# Altium integrated library Lab03.IntLib: 5 symbols
Pins are listed as number, name and electrical type; pins without a type are passive.

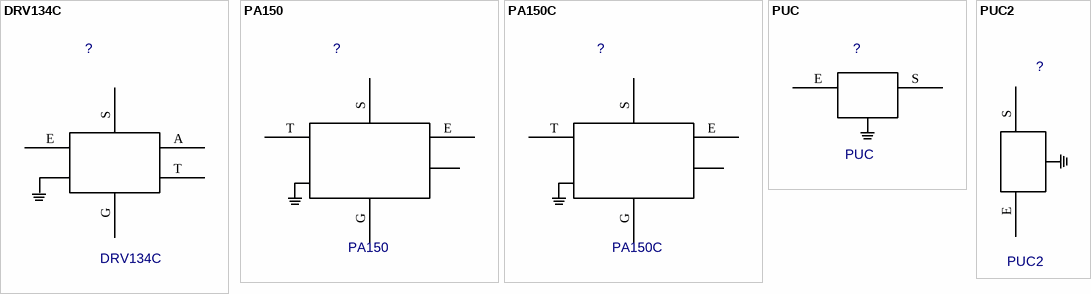
[diagram p0: symbols DRV134C to PUC2]

## DRV134C
designator ?
Value: *
footprint DRV134P_DRV134C(Primary)
pins: A, E, G, S, T

## PA150
designator ?
Value: *
footprint PA150P_PA150(Primary)
pins: E, G, S, T

## PA150C
designator ?
Value: *
footprint PA150P_PA150C(Primary)
pins: E, G, S, T

## PUC
designator ?
Value: *
footprint PUP_PUC(Primary)
pins: E, S

## PUC2
designator ?
Value: *
footprint PUP2_PUC2(Primary)
pins: E, S